# EAGLE library part EM4095 (library EM4095)
Device is avaliable in SOIC16 package and it's delivered in sticks.
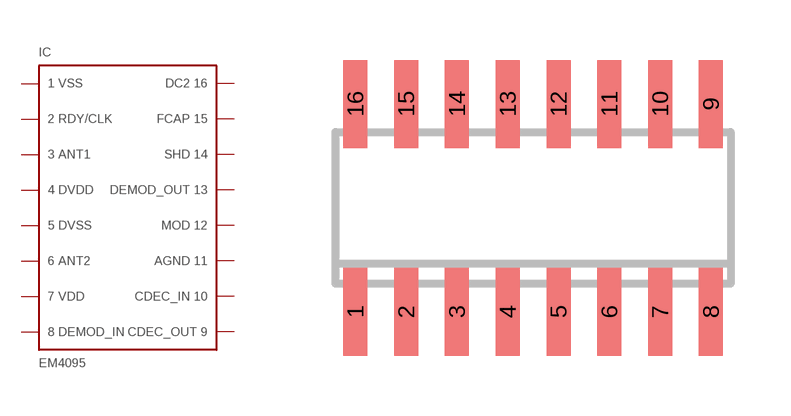
[diagram p0: symbol with the pads of SO16; footprint SO16]

Designator prefix IC

## EM4095HMSO16A  [SO16]
1  P$1  pwr
2  P$2
3  P$3
4  P$4  pwr
5  P$5  pwr
6  P$6
7  P$7  pwr
8  P$8
9  P$9
10  P$10
11  P$11  pwr
12  P$12
13  P$13
14  P$14
15  P$15
16  P$16

## Footprint SO16 (pad centres in mm)
SOIC16 For PCB layout information refer to EM4095 Application Note (App. Note 404)
smd 0.6 x 2.2: 1 -4.445,-2.6; 2 -3.175,-2.6; 3 -1.905,-2.6; 4 -0.635,-2.6; 5 0.635,-2.6; 6 1.905,-2.6; 7 3.175,-2.6; 8 4.445,-2.6; 9 4.445,2.6; 10 3.175,2.6; 11 1.905,2.6; 12 0.635,2.6; 13 -0.635,2.6; 14 -1.905,2.6; 15 -3.175,2.6; 16 -4.445,2.6